# Altium footprint library connectors.PcbLib: 8 footprints
Each footprint in its own frame and in the unit in brackets; x right, y up, seen from the top. Pads: shape width x height; smd on the part's side, far side on the other; paste and mask are expansions set on the pad; w line width, h text height; cw(c..) or ccw(c..) is an arc to the next point about the centre after c.
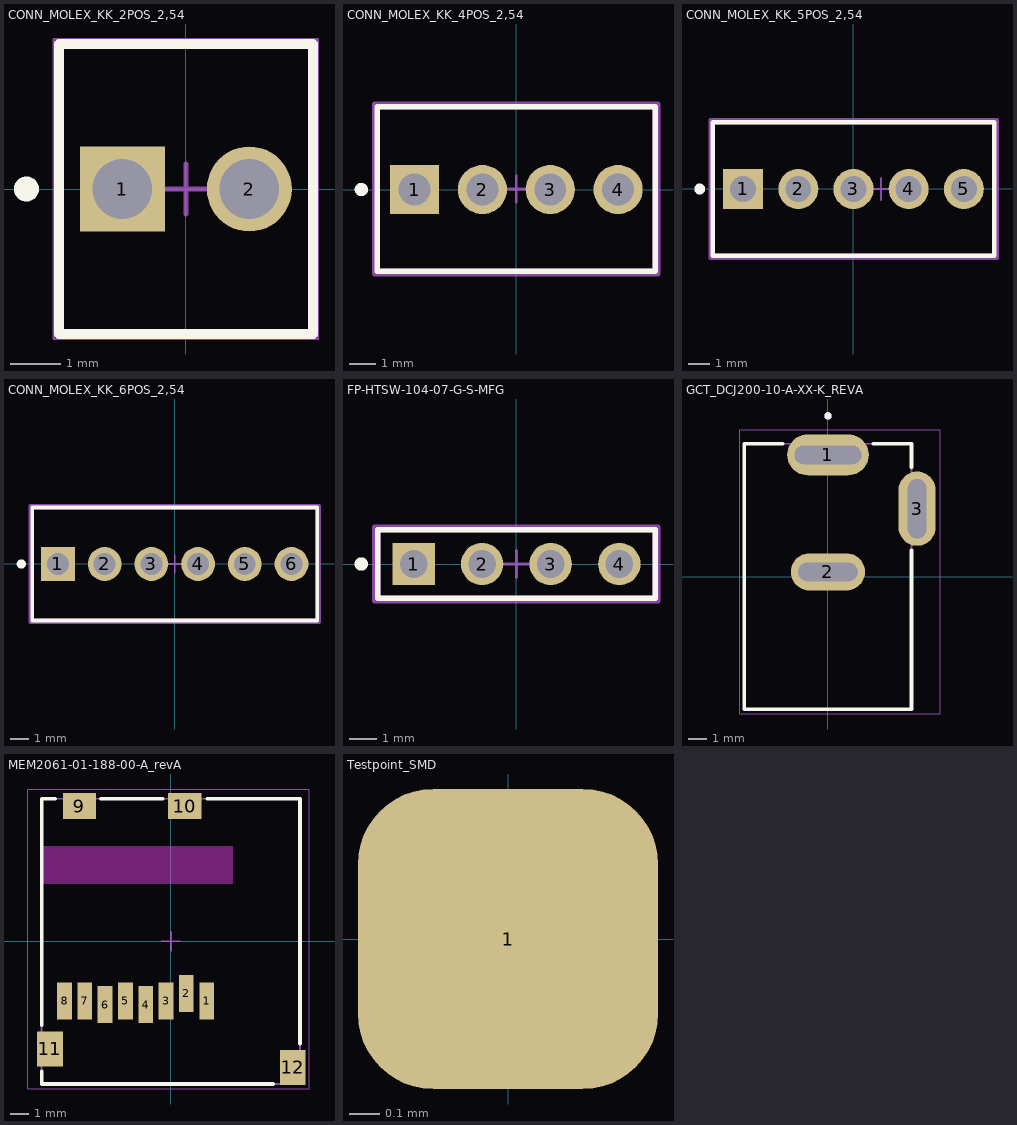
[diagram p0: the footprints below, top view; thin cyan lines are the x and y axes]

## CONN_MOLEX_KK_2POS_2,54 [mm] "Conector Molex KK 2 posiciones pitch 2,54mm. Basado en 0022272021."
height 11.7
pads (2):
  rect 1.7x1.7 hole 1.19: 1(-1.27,0)
  round 1.7 hole 1.19: 2(1.27,0)
Top Overlay:
  circle w0.25: c-3.19,0 r0.125
  lines w0.2: -2.54,-2.9 2.54,-2.9 2.54,2.9 -2.54,2.9 -2.54,-2.9
Mechanical 13:
  lines w0.1: -2.54,-2.9 -2.54,2.9 2.54,2.9 2.54,-2.9 -2.54,-2.9
Mechanical 15:
  lines w0.05: -2.64,-3 2.64,-3 2.64,3 -2.64,3 -2.64,-3
  lines w0.1: -0.5,0 0.5,0 ; 0,-0.5 0,0.5
3D body "022272021.stp": height 11.72, standoff -3.54, extent -2.54,-2.9 2.54,2.9

## CONN_MOLEX_KK_4POS_2,54 [mm] "Conector Molex KK 4 posiciones pitch 2,54mm. Basado en 22-29-2041."
pads (4):
  rect 1.84x1.84 hole 1.19 paste-2539.97 mask+0: 1(-3.81,0.005)
  round 1.84 hole 1.19 paste-2539.97 mask+0: 2(-1.27,0.005) 3(1.27,0.005) 4(3.81,0.005)
Top Overlay:
  circle w0.25: c-5.805,0.005 r0.125
  lines w0.2: -5.205,-3.05 5.205,-3.05 5.205,3.1 -5.205,3.1 -5.205,-3.05
Top 3D Body:
  lines w0.2: -5.205,-3.05 5.205,-3.05 5.205,3.1 -5.205,3.1 -5.205,-3.05
Top Courtyard:
  lines w0.2: -5.305,-3.15 5.305,-3.15 5.305,3.2 -5.305,3.2 -5.305,-3.15
Top Assembly:
  lines w0.2: -5.305,-3.15 5.305,-3.15 5.305,3.2 -5.305,3.2 -5.305,-3.15
  text ".Designator" at -5.41,-4.257 h1
Top Component Center:
  lines w0.1: -0.5,0.025 0.5,0.025 ; 0,-0.475 0,0.525
3D body "Conn_Molex_22-29-2041_eec.STEP": height 0.25, standoff 0, extent -5.305,-3.15 5.305,3.2

## CONN_MOLEX_KK_5POS_2,54 [mm] "Conector Molex KK 5 posiciones pitch 2,54mm. Basado en 0022272051."
pads (5):
  rect 1.84x1.84 hole 1.19 paste-2539.97 mask+0: 1(-5.08,0)
  round 1.84 hole 1.19 paste-2539.97 mask+0: 2(-2.54,0) 3(0,0) 4(2.54,0) 5(5.08,0)
Top Overlay:
  circle w0.25: c-7.075,0 r0.125
  lines w0.2: -6.475,-3.075 6.477,-3.075 6.477,3.075 -6.475,3.075 -6.475,-3.075
Top 3D Body:
  lines w0.2: -6.475,-3.075 6.477,-3.075 6.477,3.075 -6.475,3.075 -6.475,-3.075
Top Courtyard:
  lines w0.2: -6.575,-3.175 -6.575,3.175 6.604,3.175 6.604,-3.175 -6.575,-3.175
Top Assembly:
  lines w0.2: -6.575,-3.175 6.477,-3.175 6.477,3.175 -6.575,3.175 -6.575,-3.175
  text ".Designator" at -6.604,-4.257 h1
Top Component Center:
  lines w0.1: 0.77,0 1.77,0 ; 1.27,-0.5 1.27,0.5
3D body "conn_molex_kk_5pos_2,54.stp": height 11.69, standoff -3.57, extent -6.35,-2.9 6.35,2.9

## CONN_MOLEX_KK_6POS_2,54 [mm] "Conector Molex KK 6 posiciones pitch 2,54mm. Basado en 22-27-2061."
pads (6):
  rect 1.84x1.84 hole 1.19 paste-2539.97 mask+0: 1(-6.35,0)
  round 1.84 hole 1.19 paste-2539.97 mask+0: 2(-3.81,0) 3(-1.27,0) 4(1.27,0) 5(3.81,0) 6(6.35,0)
Top Overlay:
  circle w0.25: c-8.345,0 r0.125
  lines w0.2: -7.745,-3.075 -7.745,3.075 7.745,3.075 7.745,-3.075 -7.745,-3.075
Top 3D Body:
  lines w0.2: -7.745,-3.075 -7.745,3.075 7.745,3.075 7.745,-3.075 -7.745,-3.075
Top Courtyard:
  lines w0.2: -7.845,-3.175 -7.845,3.175 7.845,3.175 7.845,-3.175 -7.845,-3.175
Top Assembly:
  lines w0.2: -7.845,-3.175 -7.845,3.175 7.845,3.175 7.845,-3.175 -7.845,-3.175
  text ".Designator" at -7.874,-4.257 h1
Top Component Center:
  lines w0.1: -0.5,0 0.5,0 ; 0,-0.5 0,0.5
3D body "Conn_Molex_22-27-2061_eec.STEP": height 0.25, standoff 0, extent -7.845,-3.175 7.845,3.175

## FP-HTSW-104-07-G-S-MFG [mm]
pads (4):
  rect 1.57x1.57 hole 1.02 paste-2539.97 mask+0: 1(-3.81,0)
  round 1.57 hole 1.02 paste-2539.97 mask+0: 2(-1.27,0) 3(1.27,0) 4(3.81,0)
Top Overlay:
  circle w0.25: c-5.743,0 r0.125
  lines w0.2: -5.143,-1.27 5.143,-1.27 5.143,1.27 -5.143,1.27 -5.143,-1.27
Top 3D Body:
  lines w0.2: -5.143,-1.27 5.143,-1.27 5.143,1.27 -5.143,1.27 -5.143,-1.27
Top Courtyard:
  lines w0.2: -5.243,-1.37 5.243,-1.37 5.243,1.37 -5.243,1.37 -5.243,-1.37
Top Assembly:
  lines w0.2: -5.243,-1.37 5.243,-1.37 5.243,1.37 -5.243,1.37 -5.243,-1.37
  text ".Designator" at 0.127,1.712 h1
Top Component Center:
  lines w0.1: -0.5,0 0.5,0 ; 0,-0.5 0,0.5
3D body "Conn_Samtec_HTSW-104-07-G-S_eec.STEP": height 0.25, standoff 0, extent -5.243,-1.37 5.243,1.37

## GCT_DCJ200-10-A-XX-K_REVA [mm]
height 11
pads (3):
  oval 4.4x2.2 hole 1 slot 3.6 at 0 deg: 1(0,6.55)
  oval 4x2 hole 1 slot 3.2 at 0 deg: 2(0,0.25)
  oval 2x4 hole 1 slot 3.2 at 90 deg: 3(4.8,3.65)
Top Overlay:
  circle w0.2: c0,8.65 r0.1
  lines w0.2: -2.45,7.15 -4.5,7.15 -4.5,-7.15 4.5,-7.15 4.5,1.4 ; 2.45,7.15 4.5,7.15 4.5,5.9
Mechanical 13:
  circle w0.2: c0,8.65 r0.1
  lines w0.1: -4.5,-7.15 4.5,-7.15 4.5,7.15 -4.5,7.15 -4.5,-7.15
Mechanical 15:
  lines w0.05: -4.75,-7.4 -4.75,7.9 6.05,7.9 6.05,-7.4 -4.75,-7.4
3D body "step_temp.STEP": height 11, standoff -3.5, extent -4.5,-7.15 5.05,7.15

## MEM2061-01-188-00-A_revA [mm] "Micro SD Memory Card Connector, 1.88mm Profile SMT,Push Push, with normally closed switch"
height 1.88
pads (12):
  rect 0.8x2 smd: 1(1.94,-3.225) 2(0.84,-2.825) 3(-0.26,-3.225) 4(-1.36,-3.425) 5(-2.46,-3.225) 6(-3.56,-3.425) 7(-4.66,-3.225) 8(-5.76,-3.225)
  rect 1.8x1.4 smd: 9(-4.95,7.325) 10(0.75,7.325)
  rect 1.4x1.9 smd: 11(-6.55,-5.825) 12(6.6,-6.825)
Top Overlay:
  lines w0.2: -7,-7.05 -7,-7.725 5.55,-7.725 ; -7,-4.55 -7,7.725 -6.275,7.725 ; -3.8,7.725 -0.45,7.725 ; 1.975,7.725 7,7.725 ; 7,-5.55 7,7.725 ; 7,7.725 7,7.725
Keep-Out Layer:
  rectangle: -7,3.095 3.37,5.175
Mechanical 13:
  lines w0.1: -7,-7.725 7,-7.725 7,7.725 -7,7.725 -7,-7.725
Mechanical 15:
  lines w0.05: -7.75,-8 -7.75,8.25 -5.25,8.25 7.5,8.25 7.5,-8 -7.75,-8
  lines w0.1: -0.5,0 0.5,0 ; 0,-0.5 0,0.5
3D body "mem2061-01-188-00a_reva.step": height 1.95, standoff 0, extent -7.125,-7.65 7.075,7.8

## Testpoint_SMD [mm] "Testpoint SMD de 1mm de diametro."
pads (1):
  rrect50% 1x1 smd: 1(0,0)